# Altium footprint library FootPrintLib_5.PCBLIB: 254 footprints (part 1 of 16)
Each footprint in its own frame and in the unit in brackets; x right, y up, seen from the top. Pads: shape width x height; smd on the part's side, far side on the other; paste and mask are expansions set on the pad; w line width, h text height; cw(c..) or ccw(c..) is an arc to the next point about the centre after c.
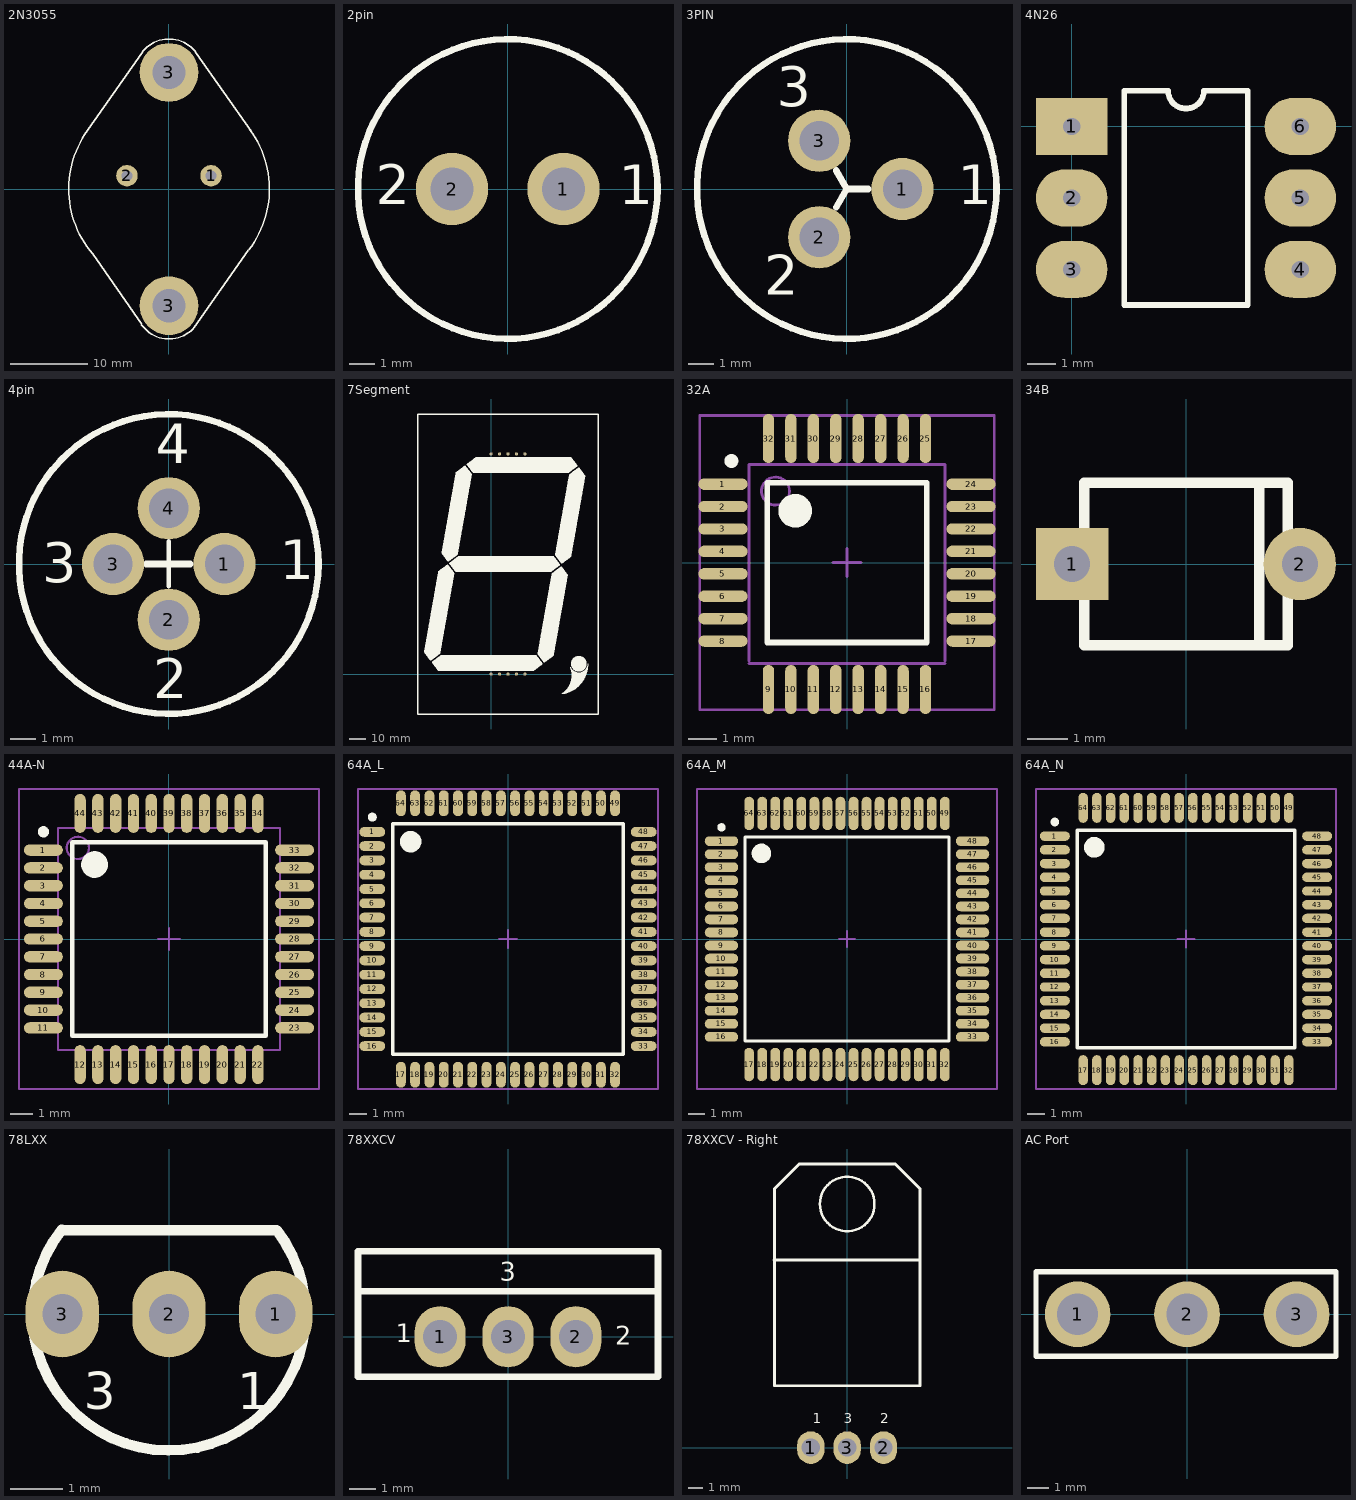
[diagram p0: the footprints below, top view; thin cyan lines are the x and y axes]

## 2N3055 [mil]
pads (4):
  round 110 hole 55: 1(214.5,68) 2(-214.5,68)
  round 300 hole 170: 3(0,-595) 3(0,595)
Top Overlay:
  lines w7: -429.13,279.53 -137.8,692.91 ; -428.85,279.35 ccw(c0,0) -390.26,-331.13 ; -389.76,-330.71 -139.49,-690.96 ; -140.47,-691.64 ccw(c-0.24,-594.22) 129.92,-704.72 404.94,-312.36 ; -138.99,693.76 cw(c0,595) 138.99,693.76 ; 137.8,692.91 418.5,295.91 ; 406.93,-310.52 ccw(c0,0) 412.78,302.7
3D body "2N3055.STEP": height 410.39, standoff -58.11, extent -515.75,-788.51 507.87,757.02
3D body "Heat Sink.STEP": height 1236.69, standoff 30, extent -1126.25,-1122.04 1087.66,1107.41

## 2pin [mil]
pads (2):
  round 110 hole 65: 1(85,0) 2(-85,0)
Top Overlay:
  circle w10: c0,0 r228.35
  text "2" at -200.97,-23.62 h60
  text "1" at 169.11,-23.62 h60
3D body "2PIN1.STEP": height 1185.04, standoff 444.88, extent -297.24,-297.24 297.25,297.25

## 3PIN [mil]
pads (3):
  round 95 hole 60: 1(85,0) 2(-42,-73.49) 3(-42,73.49)
Top Overlay:
  circle w10: c0,0 r228.35
  lines w10: -16.25,28.43 0,0 ; -16,-28 0,0 ; 33,0 0,0
  text "3" at -106.48,125.98 h60
  text "2" at -126.17,-161.42 h60
  text "1" at 169.11,-23.62 h60
3D body "3pin1.STEP": height 653.54, standoff -86.61, extent -299.21,-299.21 295.28,295.28

## 4N26 [mm]
pads (6):
  rect 2.5x2 hole 0.6: 1(0,0)
  oval 2.5x2 hole 0.6: 2(0,-2.5) 3(0,-5) 4(8,-5) 5(8,-2.5) 6(8,0)
Top Overlay:
  lines w0.2: 1.835,-6.25 6.165,-6.25 6.165,1.25 4.625,1.25 cw(c4,1.25) 3.375,1.25 1.835,1.25 1.835,-6.25

## 4pin [mil]
pads (4):
  round 95 hole 60: 1(85,0) 2(0,-85) 3(-85,0) 4(0,85)
Top Overlay:
  circle w10: c0,0 r228.35
  lines w7: 0,-34 0,35
  lines w10: -34,0 33,0
  text "1" at 169.11,-23.62 h60
  text "4" at -19.87,153.54 h60
  text "3" at -193.09,-27.56 h60
  text "2" at -23.8,-204.72 h60
3D body "4PIN1.STEP": height 1185.04, standoff 444.88, extent -297.24,-297.24 297.25,297.25

## 7Segment [mm]
pads (10):
  round 2 hole 0.85: 1(0,0) 2(5.08,0) 3(10.16,0) 4(15.24,0) 5(20.32,0) 6(20.32,132.004) 7(15.24,132.004) 8(10.16,132.004) 9(5.08,132.004) 10(0,132.004)
Top Overlay:
  drawing of 13 lines, arcs and shapes, not listed
3D body "7Segment.STEP": height 15.6, standoff -4.3, extent -43.85,-24 64.15,156

## 32A [mm] "TQFP, 32-Leads, Body 9.3x9.3mm (max), Pitch 0.80mm, IPC Medium Density"
height 1.2
pads (32):
  oval 1.753x0.406 smd: 1(-4.425,2.8) 2(-4.425,2) 3(-4.425,1.2) 4(-4.425,0.4) 5(-4.425,-0.4) 6(-4.425,-1.2) 7(-4.425,-2) 8(-4.425,-2.8) 17(4.425,-2.8) 18(4.425,-2) 19(4.425,-1.2) 20(4.425,-0.4) 21(4.425,0.4) 22(4.425,1.2) 23(4.425,2) 24(4.425,2.8)
  oval 0.406x1.753 smd: 9(-2.8,-4.525) 10(-2,-4.525) 11(-1.2,-4.525) 12(-0.4,-4.525) 13(0.4,-4.525) 14(1.2,-4.525) 15(2,-4.525) 16(2.8,-4.525) 25(2.8,4.425) 26(2,4.425) 27(1.2,4.425) 28(0.4,4.425) 29(-0.4,4.425) 30(-1.2,4.425) 31(-2,4.425) 32(-2.8,4.425)
Top Overlay:
  circle w0.25: c-4.125,3.625 r0.125
  circle w0.6: c-1.85,1.85 r0.3
  lines w0.2: -2.85,-2.85 -2.85,2.85 2.85,2.85 2.85,-2.85 -2.85,-2.85
Mechanical 13:
  circle w0.1: c-2.55,2.55 r0.5
  lines w0.1: -3.5,-3.6 3.5,-3.6 ; -3.5,-3.5 -3.5,3.5 3.5,3.5 3.5,-3.5
Mechanical 15:
  lines w0.1: -0.5,0 0.5,0 ; 0,-0.5 0,0.5 ; -5.25,-5.25 -5.25,5.25 5.25,5.25 5.25,-5.25 -5.25,-5.25
3D body "32A.STEP": height 1.11, standoff 0, extent -4.8,-4.8 4.8,4.8

## 34B [mil]
pads (2):
  rect 70x70 hole 35: 1(-110.24,0)
  round 70 hole 35: 2(110.24,0)
Top Overlay:
  lines w10: 70.87,-78.74 70.87,78.74 ; -98.43,-78.74 -98.43,78.74 98.43,78.74 98.43,-78.74 -98.43,-78.74
3D body: height 111.42, standoff 95.47, extent -78.74,-66.93 78.74,66.93
3D body "BPW34B.STEP": height 112.2, standoff -99.03, extent -120.53,-78.74 120.53,78.74

## 44A-N [mm] "Thin QFP, 44-Leads, Body 10x10mm, Pitch 0.8mm, IPC Medium Density"
height 1.2
pads (44):
  oval 1.75x0.508 smd: 1(-5.65,4) 2(-5.65,3.2) 3(-5.65,2.4) 4(-5.65,1.6) 5(-5.65,0.8) 6(-5.65,0) 7(-5.65,-0.8) 8(-5.65,-1.6) 9(-5.65,-2.4) 10(-5.65,-3.2) 11(-5.65,-4) 23(5.65,-4) 24(5.65,-3.2) 25(5.65,-2.4) 26(5.65,-1.6) 27(5.65,-0.8) 28(5.65,0) 29(5.65,0.8) 30(5.65,1.6) 31(5.65,2.4) 32(5.65,3.2) 33(5.65,4)
  oval 0.508x1.75 smd: 12(-4,-5.65) 13(-3.2,-5.65) 14(-2.4,-5.65) 15(-1.6,-5.65) 16(-0.8,-5.65) 17(0,-5.65) 18(0.8,-5.65) 19(1.6,-5.65) 20(2.4,-5.65) 21(3.2,-5.65) 22(4,-5.65) 34(4,5.65) 35(3.2,5.65) 36(2.4,5.65) 37(1.6,5.65) 38(0.8,5.65) 39(0,5.65) 40(-0.8,5.65) 41(-1.6,5.65) 42(-2.4,5.65) 43(-3.2,5.65) 44(-4,5.65)
Top Overlay:
  circle w0.6: c-3.35,3.35 r0.3
  circle w0.25: c-5.65,4.825 r0.125
  lines w0.2: -4.35,-4.35 4.35,-4.35 4.35,4.35 -4.35,4.35 -4.35,-4.35
Mechanical 13:
  circle w0.1: c-4.1,4.1 r0.5
  lines w0.1: -5,-5 5,-5 5,5 -5,5 -5,-5
Mechanical 15:
  lines w0.1: -0.5,0 0.5,0 ; 0,-0.5 0,0.5 ; -6.75,-6.75 6.75,-6.75 6.75,6.75 -6.75,6.75 -6.75,-6.75
3D body "ATMEL-TQFP44-1.STEP": height 1.1, standoff 0, extent -6.02,-5.994 5.998,6.023

## 64A_L [mm] "Thin QFP, 64-Leads, Body 14x14mm, Pitch 0.8mm, IPC High Density"
height 1.2
pads (64):
  oval 1.45x0.55 smd: 1(-7.6,6) 2(-7.6,5.2) 3(-7.6,4.4) 4(-7.6,3.6) 5(-7.6,2.8) 6(-7.6,2) 7(-7.6,1.2) 8(-7.6,0.4) 9(-7.6,-0.4) 10(-7.6,-1.2) 11(-7.6,-2) 12(-7.6,-2.8) 13(-7.6,-3.6) 14(-7.6,-4.4) 15(-7.6,-5.2) 16(-7.6,-6) 33(7.6,-6) 34(7.6,-5.2) 35(7.6,-4.4) 36(7.6,-3.6) 37(7.6,-2.8) 38(7.6,-2) 39(7.6,-1.2) 40(7.6,-0.4) 41(7.6,0.4) 42(7.6,1.2) 43(7.6,2) 44(7.6,2.8) 45(7.6,3.6) 46(7.6,4.4) 47(7.6,5.2) 48(7.6,6)
  oval 0.55x1.45 smd: 17(-6,-7.6) 18(-5.2,-7.6) 19(-4.4,-7.6) 20(-3.6,-7.6) 21(-2.8,-7.6) 22(-2,-7.6) 23(-1.2,-7.6) 24(-0.4,-7.6) 25(0.4,-7.6) 26(1.2,-7.6) 27(2,-7.6) 28(2.8,-7.6) 29(3.6,-7.6) 30(4.4,-7.6) 31(5.2,-7.6) 32(6,-7.6) 49(6,7.6) 50(5.2,7.6) 51(4.4,7.6) 52(3.6,7.6) 53(2.8,7.6) 54(2,7.6) 55(1.2,7.6) 56(0.4,7.6) 57(-0.4,7.6) 58(-1.2,7.6) 59(-2,7.6) 60(-2.8,7.6) 61(-3.6,7.6) 62(-4.4,7.6) 63(-5.2,7.6) 64(-6,7.6)
Top Overlay:
  circle w0.25: c-7.6,6.825 r0.125
  circle w0.6: c-5.45,5.45 r0.3
  lines w0.2: -6.45,-6.45 -6.45,6.45 6.45,6.45 6.45,-6.45 -6.45,-6.45
Mechanical 15:
  lines w0.1: -0.5,0 0.5,0 ; 0,-0.5 0,0.5 ; -8.4,-8.4 -8.4,8.4 8.4,8.4 8.4,-8.4 -8.4,-8.4
3D body "User Library-atmega64 (tqfp64).step": height 1.1, standoff -0.01, extent -7.99,-8 8.01,8

## 64A_M [mm] "Thin QFP, 64-Leads, Body 14x14mm, Pitch 0.8mm, IPC Low Density"
height 1.2
pads (64):
  oval 2.05x0.6 smd: 1(-7.7,6) 2(-7.7,5.2) 3(-7.7,4.4) 4(-7.7,3.6) 5(-7.7,2.8) 6(-7.7,2) 7(-7.7,1.2) 8(-7.7,0.4) 9(-7.7,-0.4) 10(-7.7,-1.2) 11(-7.7,-2) 12(-7.7,-2.8) 13(-7.7,-3.6) 14(-7.7,-4.4) 15(-7.7,-5.2) 16(-7.7,-6) 33(7.7,-6) 34(7.7,-5.2) 35(7.7,-4.4) 36(7.7,-3.6) 37(7.7,-2.8) 38(7.7,-2) 39(7.7,-1.2) 40(7.7,-0.4) 41(7.7,0.4) 42(7.7,1.2) 43(7.7,2) 44(7.7,2.8) 45(7.7,3.6) 46(7.7,4.4) 47(7.7,5.2) 48(7.7,6)
  oval 0.6x2.05 smd: 17(-6,-7.7) 18(-5.2,-7.7) 19(-4.4,-7.7) 20(-3.6,-7.7) 21(-2.8,-7.7) 22(-2,-7.7) 23(-1.2,-7.7) 24(-0.4,-7.7) 25(0.4,-7.7) 26(1.2,-7.7) 27(2,-7.7) 28(2.8,-7.7) 29(3.6,-7.7) 30(4.4,-7.7) 31(5.2,-7.7) 32(6,-7.7) 49(6,7.7) 50(5.2,7.7) 51(4.4,7.7) 52(3.6,7.7) 53(2.8,7.7) 54(2,7.7) 55(1.2,7.7) 56(0.4,7.7) 57(-0.4,7.7) 58(-1.2,7.7) 59(-2,7.7) 60(-2.8,7.7) 61(-3.6,7.7) 62(-4.4,7.7) 63(-5.2,7.7) 64(-6,7.7)
Top Overlay:
  circle w0.25: c-7.7,6.85 r0.125
  circle w0.6: c-5.25,5.25 r0.3
  lines w0.2: -6.25,-6.25 -6.25,6.25 6.25,6.25 6.25,-6.25 -6.25,-6.25
Mechanical 15:
  lines w0.1: -0.5,0 0.5,0 ; 0,-0.5 0,0.5 ; -9.2,-9.2 -9.2,9.2 9.2,9.2 9.2,-9.2 -9.2,-9.2
3D body "User Library-atmega64 (tqfp64).step": height 1.1, standoff -0.01, extent -8,-8 8,8

## 64A_N [mm] "Thin QFP, 64-Leads, Body 14x14mm, Pitch 0.8mm, IPC Medium Density"
height 1.2
pads (64):
  oval 1.75x0.55 smd: 1(-7.65,6) 2(-7.65,5.2) 3(-7.65,4.4) 4(-7.65,3.6) 5(-7.65,2.8) 6(-7.65,2) 7(-7.65,1.2) 8(-7.65,0.4) 9(-7.65,-0.4) 10(-7.65,-1.2) 11(-7.65,-2) 12(-7.65,-2.8) 13(-7.65,-3.6) 14(-7.65,-4.4) 15(-7.65,-5.2) 16(-7.65,-6) 33(7.65,-6) 34(7.65,-5.2) 35(7.65,-4.4) 36(7.65,-3.6) 37(7.65,-2.8) 38(7.65,-2) 39(7.65,-1.2) 40(7.65,-0.4) 41(7.65,0.4) 42(7.65,1.2) 43(7.65,2) 44(7.65,2.8) 45(7.65,3.6) 46(7.65,4.4) 47(7.65,5.2) 48(7.65,6)
  oval 0.55x1.75 smd: 17(-6,-7.65) 18(-5.2,-7.65) 19(-4.4,-7.65) 20(-3.6,-7.65) 21(-2.8,-7.65) 22(-2,-7.65) 23(-1.2,-7.65) 24(-0.4,-7.65) 25(0.4,-7.65) 26(1.2,-7.65) 27(2,-7.65) 28(2.8,-7.65) 29(3.6,-7.65) 30(4.4,-7.65) 31(5.2,-7.65) 32(6,-7.65) 49(6,7.65) 50(5.2,7.65) 51(4.4,7.65) 52(3.6,7.65) 53(2.8,7.65) 54(2,7.65) 55(1.2,7.65) 56(0.4,7.65) 57(-0.4,7.65) 58(-1.2,7.65) 59(-2,7.65) 60(-2.8,7.65) 61(-3.6,7.65) 62(-4.4,7.65) 63(-5.2,7.65) 64(-6,7.65)
Top Overlay:
  circle w0.25: c-7.65,6.825 r0.125
  circle w0.6: c-5.35,5.35 r0.3
  lines w0.2: -6.35,-6.35 -6.35,6.35 6.35,6.35 6.35,-6.35 -6.35,-6.35
Mechanical 15:
  lines w0.1: -0.5,0 0.5,0 ; 0,-0.5 0,0.5 ; -8.75,-8.75 -8.75,8.75 8.75,8.75 8.75,-8.75 -8.75,-8.75
3D body "User Library-atmega64 (tqfp64).step": height 1.1, standoff -0.01, extent -8,-8 8,8

## 78LXX [mil]
height 236.22
pads (3):
  oval 55x65 hole 30: 1(80,0) 2(0,0) 3(-80,0)
Top Overlay:
  lines w7.87: -80.54,63.17 ccw(c0,0) 81.13,62.41 80.55,62.99 -80.31,62.99
  text "1" at 51,-71.26 h27.56
  text "3" at -64,-71.26 h27.56
3D body "SW3dPS-TO-92A.STEP": height 314.96, standoff -118.11, extent -97.49,-90.72 91.49,64

## 78XXCV [mil]
pads (3):
  oval 75x90 hole 50: 1(-100,0) 2(100,0) 3(0,0)
Top Overlay:
  lines w10: -220.73,66.93 220.73,66.93 ; -220.73,-58.86 220.73,-58.86 220.73,125.79 -220.73,125.79 -220.73,-58.86
  text "3" at -11.81,82.68 h27.56
  text "2" at 157.48,-11.81 h27.56
  text "1" at -165.35,-7.87 h27.56
3D body "SW3dPS-TO220AB.step": height 780.71, standoff -137.8, extent -220.73,-58.86 220.73,125.79

## 78XXCV - Right [mil] "Right Angle"
height 177.17
pads (3):
  oval 75x90 hole 50: 1(-100,0) 2(100,0) 3(0,0)
Top Overlay:
  circle w7: c0,670 r75
  lines w7.87: -201,516.22 199,516.22 ; -200,170 200,170 200,712 132,780 -132,780 -200,712 -200,578.74 -200,170
  text "1" at -95,66.93 h27.56
  text "2" at 91,66.93 h27.56
  text "3" at -10,66.93 h27.56
3D body "78XXCV.STEP": height 175, standoff -112.5, extent -198,-8 202,776

## AC Port [mil]
pads (3):
  round 120 hole 75: 1(-200,0) 2(0,0) 3(200,0)
Top Overlay:
  lines w10: -276,-77 -276,78 272,78 272,-77 -276,-77
3D body: height 50, standoff -30, extent -229.83,-29.98 -169.87,29.98
3D body: height 200, standoff 30, extent -261.83,-61.98 -137.87,61.98
3D body: height 200, standoff 30, extent -61.98,-61.98 61.98,61.98
3D body: height 50, standoff -30, extent -29.98,-29.98 29.98,29.98
3D body: height 200, standoff 30, extent 138.87,-61.98 262.83,61.98
3D body: height 50, standoff -30, extent 170.87,-29.98 230.83,29.98